# Altium footprint library RESC3146X055.PcbLib: 3 footprints
Each footprint in its own frame and in the unit in brackets; x right, y up, seen from the top. Pads: shape width x height; smd on the part's side, far side on the other; paste and mask are expansions set on the pad; w line width, h text height; cw(c..) or ccw(c..) is an arc to the next point about the centre after c.
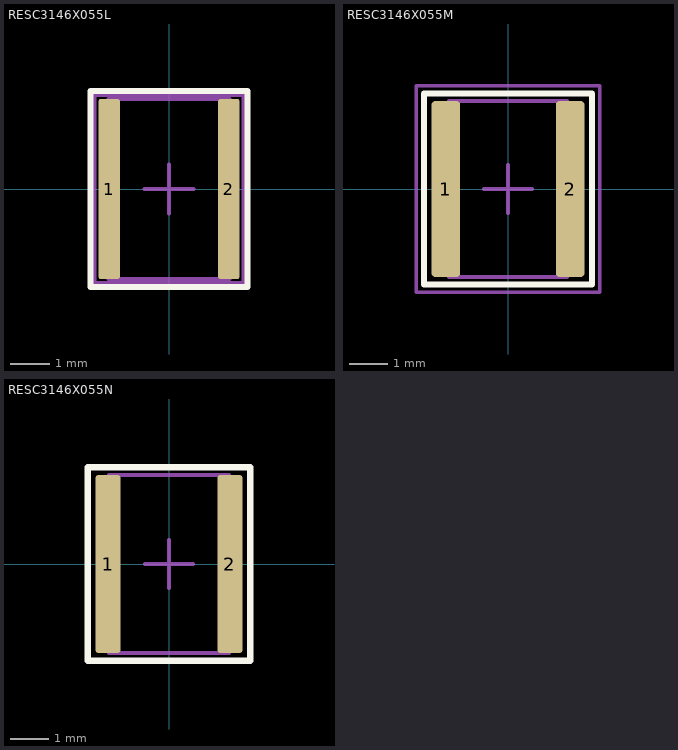
[diagram p0: the footprints below, top view; thin cyan lines are the x and y axes]

## RESC3146X055L [mm] "Resistors, Chip"
height 0.65
pads (2):
  rrect25% 0.55x4.6 smd: 1(-1.525,0) 2(1.525,0)
Top Overlay:
  lines w0.16: -2,-2.5 2,-2.5 2,2.5 -2,2.5 -2,-2.5
Top Component Center:
  lines w0.1: -0.625,0 0.625,0 ; 0,-0.625 0,0.625
Top Courtyard:
  lines w0.1: -1.9,-2.4 1.9,-2.4 1.9,2.4 -1.9,2.4 -1.9,-2.4
Top Assembly:
  lines w0.1: -1.55,-2.3 1.55,-2.3 1.55,2.3 -1.55,2.3 -1.55,-2.3
  text ".Designator" at 0,0 h1
3D body "RESC3146X055L.STEP": height 0.55, standoff 0, extent -1.55,-2.3 1.55,2.3

## RESC3146X055M [mm] "Resistors, Chip"
height 0.65
pads (2):
  rrect25% 0.75x4.6 smd: 1(-1.625,0) 2(1.625,0)
Top Overlay:
  lines w0.16: -2.2,-2.5 2.2,-2.5 2.2,2.5 -2.2,2.5 -2.2,-2.5
Top Component Center:
  lines w0.1: -0.625,0 0.625,0 ; 0,-0.625 0,0.625
Top Courtyard:
  lines w0.1: -2.4,-2.7 2.4,-2.7 2.4,2.7 -2.4,2.7 -2.4,-2.7
Top Assembly:
  lines w0.1: -1.55,-2.3 1.55,-2.3 1.55,2.3 -1.55,2.3 -1.55,-2.3
  text ".Designator" at 0,0 h1
3D body "RESC3146X055M.STEP": height 0.55, standoff 0, extent -1.55,-2.3 1.55,2.3

## RESC3146X055N [mm] "Resistors, Chip"
height 0.65
pads (2):
  rrect25% 0.65x4.6 smd: 1(-1.575,0) 2(1.575,0)
Top Overlay:
  lines w0.16: -2.1,-2.5 2.1,-2.5 2.1,2.5 -2.1,2.5 -2.1,-2.5
Top Component Center:
  lines w0.1: -0.625,0 0.625,0 ; 0,-0.625 0,0.625
Top Courtyard:
  lines w0.1: -2.1,-2.5 2.1,-2.5 2.1,2.5 -2.1,2.5 -2.1,-2.5
Top Assembly:
  lines w0.1: -1.55,-2.3 1.55,-2.3 1.55,2.3 -1.55,2.3 -1.55,-2.3
  text ".Designator" at 0,0 h1
3D body "RESC3146X055N.STEP": height 0.55, standoff 0, extent -1.55,-2.3 1.55,2.3